# EAGLE library part STM32F103RGT6 (library MySTM32F103RGT6)
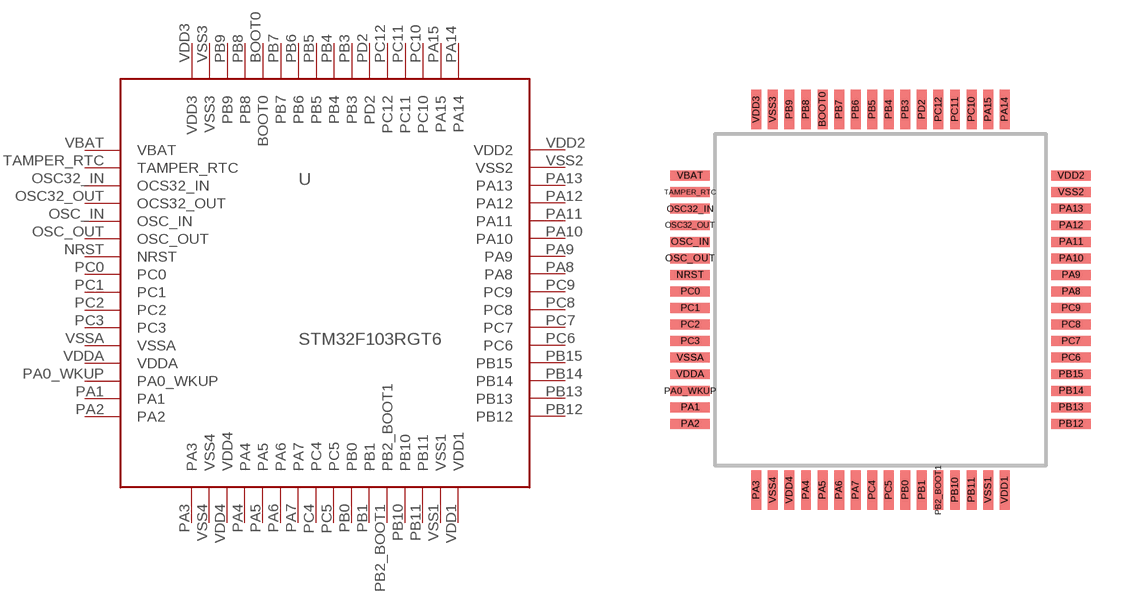
[diagram p0: symbol with the pads of STM32F103RGT6; footprint STM32F103RGT6]

Designator prefix -

## STM32F103RGT6  [STM32F103RGT6]
BOOT0  BOOT0
NRST  NRST
OSC32_IN  OCS32_IN
OSC32_OUT  OCS32_OUT
OSC_IN  OSC_IN
OSC_OUT  OSC_OUT
PA0_WKUP  PA0_WKUP
PA1  PA1
PA2  PA2
PA3  PA3
PA4  PA4
PA5  PA5
PA6  PA6
PA7  PA7
PA8  PA8
PA9  PA9
PA10  PA10
PA11  PA11
PA12  PA12
PA13  PA13
PA14  PA14
PA15  PA15
PB0  PB0
PB1  PB1
PB2_BOOT1  PB2_BOOT1
PB3  PB3
PB4  PB4
PB5  PB5
PB6  PB6
PB7  PB7
PB8  PB8
PB9  PB9
PB10  PB10
PB11  PB11
PB12  PB12
PB13  PB13
PB14  PB14
PB15  PB15
PC0  PC0
PC1  PC1
PC2  PC2
PC3  PC3
PC4  PC4
PC5  PC5
PC6  PC6
PC7  PC7
PC8  PC8
PC9  PC9
PC10  PC10
PC11  PC11
PC12  PC12
PD2  PD2
TAMPER_RTC  TAMPER_RTC
VBAT  VBAT
VDD1  VDD1
VDD2  VDD2
VDD3  VDD3
VDD4  VDD4
VDDA  VDDA
VSS1  VSS1
VSS2  VSS2
VSS3  VSS3
VSS4  VSS4
VSSA  VSSA

## Footprint STM32F103RGT6 (pad centres in mm)
smd 0.3 x 1.2: BOOT0 -1.75,5.75; PA3 -3.75,-5.75; PA4 -2.25,-5.75; PA5 -1.75,-5.75; PA6 -1.25,-5.75; PA7 -0.75,-5.75; PA14 3.75,5.75; PA15 3.25,5.75; PB0 0.75,-5.75; PB1 1.25,-5.75; PB2_BOOT1 1.75,-5.75; PB3 0.75,5.75; PB4 0.25,5.75; PB5 -0.25,5.75; PB6 -0.75,5.75; PB7 -1.25,5.75; PB8 -2.25,5.75; PB9 -2.75,5.75; PB10 2.25,-5.75; PB11 2.75,-5.75; PC4 -0.25,-5.75; PC5 0.25,-5.75; PC10 2.75,5.75; PC11 2.25,5.75; PC12 1.75,5.75; PD2 1.25,5.75; VDD1 3.75,-5.75; VDD3 -3.75,5.75; VDD4 -2.75,-5.75; VSS1 3.25,-5.75; VSS3 -3.25,5.75; VSS4 -3.25,-5.75
smd 1.2 x 0.3: NRST -5.75,0.75; OSC32_IN -5.75,2.75; OSC32_OUT -5.75,2.25; OSC_IN -5.75,1.75; OSC_OUT -5.75,1.25; PA0_WKUP -5.75,-2.75; PA1 -5.75,-3.25; PA2 -5.75,-3.75; PA8 5.75,0.25; PA9 5.75,0.75; PA10 5.75,1.25; PA11 5.75,1.75; PA12 5.75,2.25; PA13 5.75,2.75; PB12 5.75,-3.75; PB13 5.75,-3.25; PB14 5.75,-2.75; PB15 5.75,-2.25; PC0 -5.75,0.25; PC1 -5.75,-0.25; PC2 -5.75,-0.75; PC3 -5.75,-1.25; PC6 5.75,-1.75; PC7 5.75,-1.25; PC8 5.75,-0.75; PC9 5.75,-0.25; TAMPER_RTC -5.75,3.25; VBAT -5.75,3.75; VDD2 5.75,3.75; VDDA -5.75,-2.25; VSS2 5.75,3.25; VSSA -5.75,-1.75